# Altium schematic symbol library Relay.SchLib: 1 symbol
Pins are listed as number, name and electrical type; pins without a type are passive.

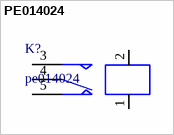
[diagram p0: symbol PE014024]

## PE014024
designator K?, comment pe014024
pins: 1, 2, 3, 4, 5